# EAGLE library part AD7306JRZ (library analog_devices)
AD7306 - 24 SOIC package RS232/RS422 Transciever
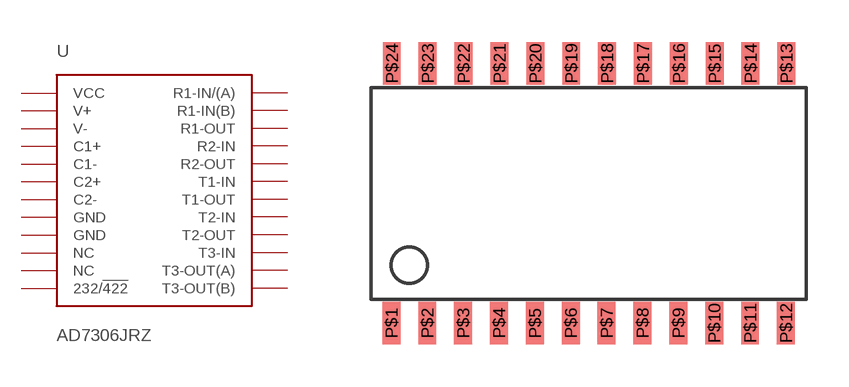
[diagram p1: symbol with the pads of SOIC-24; footprint SOIC-24]

Designator prefix -

## AD7306JRZ  [SOIC-24]
P$1  V+
P$2  C1+
P$3  C1-
P$4  R2-IN
P$5  T1-OUT
P$6  T2-OUT
P$7  VCC
P$8  R1-IN(B)
P$9  R1-IN/(A)
P$10  T3-OUT(B)
P$11  T3-OUT(A)
P$12  NC
P$13  NC
P$14  GND
P$15  232/!422!
P$16  T3-IN
P$17  R1-OUT
P$18  GND
P$19  T2-IN
P$20  T1-IN
P$21  R2-OUT
P$22  C2+
P$23  C2-
P$24  V-

## Footprint SOIC-24 (pad centres in mm)
smd 0.635 x 1.5: P$1 -6.985,-4.6; P$2 -5.715,-4.6; P$3 -4.445,-4.6; P$4 -3.175,-4.6; P$5 -1.905,-4.6; P$6 -0.635,-4.6; P$7 0.635,-4.6; P$8 1.905,-4.6; P$9 3.175,-4.6; P$10 4.445,-4.6; P$11 5.715,-4.6; P$12 6.985,-4.6; P$13 7,4.6; P$14 5.73,4.6; P$15 4.46,4.6; P$16 3.19,4.6; P$17 1.92,4.6; P$18 0.65,4.6; P$19 -0.62,4.6; P$20 -1.89,4.6; P$21 -3.16,4.6; P$22 -4.43,4.6; P$23 -5.7,4.6; P$24 -6.97,4.6